# EAGLE library part BQ76930 (library geusebio)
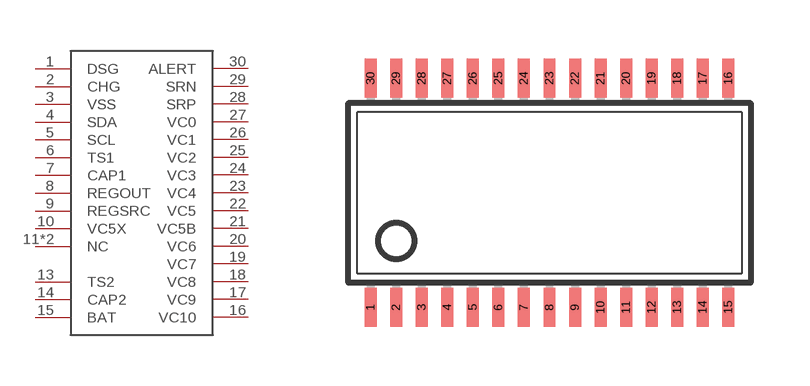
[diagram p1: symbol with the pads of TSSOP30; footprint TSSOP30]

Designator prefix -

## BQ76930  [TSSOP30]
1  DSG
2  CHG
3  VSS
4  SDA
5  SCL
6  TS1
7  CAP1
8  REGOUT
9  REGSRC
10  VC5X
11  NC
12  NC
13  TS2
14  CAP2
15  BAT
16  VC10
17  VC9
18  VC8
19  VC7
20  VC6
21  VC5B
22  VC5
23  VC4
24  VC3
25  VC2
26  VC1
27  VC0
28  SRP
29  SRN
30  ALERT

## Footprint TSSOP30 (pad centres in mm)
Thin Shrink Small Outline Plastic 28 MAX3223-MAX3243.pdf
smd 0.305 x 0.991: 1 -4.225,-2.918; 2 -3.575,-2.918; 3 -2.925,-2.918; 4 -2.275,-2.918; 5 -1.625,-2.918; 6 -0.975,-2.918; 7 -0.325,-2.918; 8 0.325,-2.918; 9 0.975,-2.918; 10 1.625,-2.918; 11 2.275,-2.918; 12 2.925,-2.918; 13 3.575,-2.918; 14 4.225,-2.918; 15 4.875,-2.918; 16 4.875,2.918; 17 4.225,2.918; 18 3.575,2.918; 19 2.925,2.918; 20 2.275,2.918; 21 1.625,2.918; 22 0.975,2.918; 23 0.325,2.918; 24 -0.325,2.918; 25 -0.975,2.918; 26 -1.625,2.918; 27 -2.275,2.918; 28 -2.925,2.918; 29 -3.575,2.918; 30 -4.225,2.918